# Altium footprint library FootPrintLib_6.PcbLib: 588 footprints (part 11 of 37)
Each footprint in its own frame and in the unit in brackets; x right, y up, seen from the top. Pads: shape width x height; smd on the part's side, far side on the other; paste and mask are expansions set on the pad; w line width, h text height; cw(c..) or ccw(c..) is an arc to the next point about the centre after c.
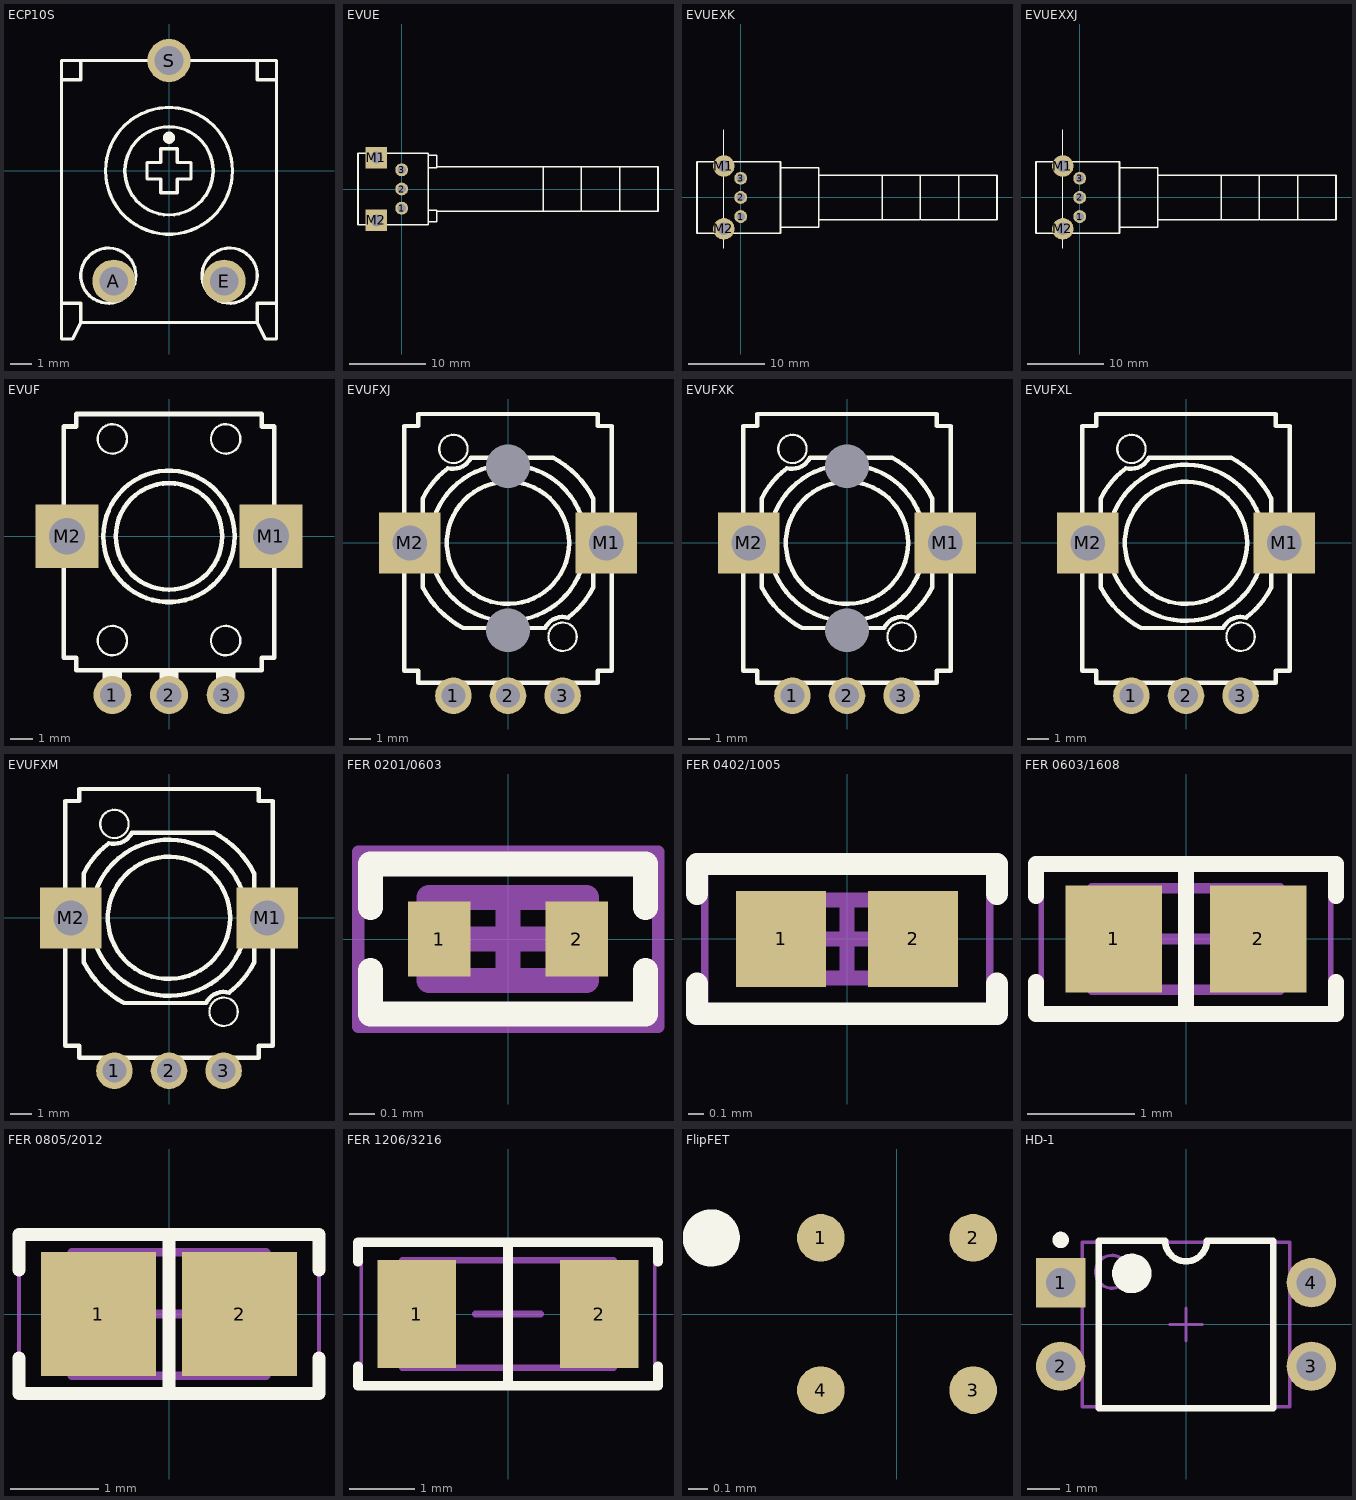
[diagram p10: the footprints below, top view; thin cyan lines are the x and y axes]

## ECP10S [mil]
pads (3):
  round 78 hole 52: A(-100,-200) E(100,-200) S(0,200)
Top Overlay:
  circle w6: c0,0 r115
  circle w12: c0,60 r5
  circle w6: c110,-190 r50
  circle w6: c-110,-190 r50
  circle w6: c0,0 r80
  rectangle: -20,200 20,215
  lines w6: -195,-240 -195,-305 -175,-305 -160,-275 ; -195,-240 -160,-240 -160,-275 ; -195,-240 -195,165 ; -195,165 -160,165 -160,200 ; -195,165 -195,200 -160,200 ; -160,-275 160,-275 ; -160,200 -60,200 60,200 160,200 ; 160,-275 175,-305 195,-305 195,-240 ; 160,-275 160,-240 195,-240 ; 160,200 160,165 195,165 ; 160,200 195,200 195,165 ; 195,-240 195,165 ; -40,-15 -40,15 -15,15 -15,40 15,40 15,15 40,15 40,-15 15,-15 15,-40 -15,-40 -15,-15 -40,-15

## EVUE [mm]
pads (5):
  round 1.676 hole 1.1: 1(0,-2.5) 2(0,0) 3(0,2.5)
  rect 2.8x2.8 hole 1.6: M1(-3.3,4.1) M2(-3.3,-4.1)
Top Overlay:
  lines w0.203: -0.62,-4.65 3.45,-4.65 ; -0.62,4.65 3.45,4.65 ; 3.55,-4.3 4.55,-4.3 4.55,-2.8 3.55,-2.8 ; 3.55,2.8 4.55,2.8 4.55,4.4 3.55,4.4 ; 4.65,-2.9 18.45,-2.9 18.45,2.9 ; 4.65,2.9 18.45,2.9 ; 18.55,-2.9 23.45,-2.9 23.45,2.9 ; 23.55,-2.9 28.45,-2.9 28.45,2.9 ; 28.55,-2.9 33.45,-2.9 33.45,2.9 28.45,2.9 ; 3.45,-4.65 -5.7,-4.65 -5.7,4.65 3.45,4.65 ; 3.45,-4.65 3.45,4.65 ; 18.45,2.9 23.45,2.9 ; 23.45,2.9 28.45,2.9
Mechanical 1:
  lines w0.008: -4.35,-4.9 -4.35,-3.3 -2.25,-3.3 -2.25,-4.9 -4.35,-4.9 ; -4.35,3.3 -4.35,4.9 -2.25,4.9 -2.25,3.3 -4.35,3.3

## EVUEXK [mm]
pads (5):
  round 1.676 hole 1.1: 1(0,-2.5) 2(0,0) 3(0,2.5)
  round 2.8 hole 1.6: M1(-2.2,4.1) M2(-2.2,-4.1)
Top Overlay:
  lines w0.008: -2.2,-6.6 -2.2,8.8
  lines w0.203: -0.12,-4.65 5.2,-4.65 ; -0.12,4.65 5.2,4.65 ; 5.3,-3.9 10.2,-3.9 10.2,3.9 5.3,3.9 ; 10.3,-2.9 18.45,-2.9 18.45,2.9 ; 10.3,2.9 18.45,2.9 ; 18.55,-2.9 23.45,-2.9 23.45,2.9 ; 23.55,-2.9 28.45,-2.9 28.45,2.9 ; 28.55,-2.9 33.45,-2.9 33.45,2.9 28.45,2.9 ; 5.2,-4.65 -5.7,-4.65 -5.7,4.65 5.2,4.65 ; 5.2,-4.65 5.2,4.65 ; 18.45,2.9 23.45,2.9 ; 23.45,2.9 28.45,2.9
Mechanical 1:
  lines w0.008: -3.25,-4.9 -3.25,-3.3 -1.15,-3.3 -1.15,-4.9 -3.25,-4.9 ; -3.25,3.3 -3.25,4.9 -1.15,4.9 -1.15,3.3 -3.25,3.3

## EVUEXXJ [mm]
pads (5):
  round 1.676 hole 1.1: 1(0,-2.5) 2(0,0) 3(0,2.5)
  round 2.8 hole 1.6: M1(-2.2,4.1) M2(-2.2,-4.1)
Top Overlay:
  lines w0.008: -2.2,-6.6 -2.2,8.8
  lines w0.203: -0.12,-4.65 5.2,-4.65 ; -0.12,4.65 5.2,4.65 ; 5.3,-3.9 10.2,-3.9 10.2,3.9 5.3,3.9 ; 10.3,-2.9 18.45,-2.9 18.45,2.9 ; 10.3,2.9 18.45,2.9 ; 18.55,-2.9 23.45,-2.9 23.45,2.9 ; 23.55,-2.9 28.45,-2.9 28.45,2.9 ; 28.55,-2.9 33.45,-2.9 33.45,2.9 28.45,2.9 ; 5.2,-4.65 -5.7,-4.65 -5.7,4.65 5.2,4.65 ; 5.2,-4.65 5.2,4.65 ; 18.45,2.9 23.45,2.9 ; 23.45,2.9 28.45,2.9
Mechanical 1:
  lines w0.008: -3.25,-4.9 -3.25,-3.3 -1.15,-3.3 -1.15,-4.9 -3.25,-4.9 ; -3.25,3.3 -3.25,4.9 -1.15,4.9 -1.15,3.3 -3.25,3.3

## EVUF [mm]
pads (5):
  round 1.676 hole 1.1: 1(-2.5,-7) 2(0,-7) 3(2.5,-7)
  rect 2.8x2.8 hole 1.6: M1(4.5,0) M2(-4.5,0)
Top Overlay:
  circle w0.203: c0,0 r2.35
  circle w0.203: c0,0 r2.9
  circle w0.102: c2.5,4.3 r0.65
  circle w0.102: c-2.5,4.3 r0.65
  circle w0.102: c2.5,-4.6 r0.65
  circle w0.102: c-2.5,-4.6 r0.65
  rectangle: 2.075,-7.325 2.925,-6
  rectangle: -0.425,-7.325 0.425,-6
  rectangle: -2.925,-7.325 -2.075,-6
  lines w0.203: -4.75,-0.9 -5.5,-0.9 -5.5,0.9 -4.75,0.9 ; -4.65,-2.15 -4.65,-5.35 ; -4.65,2.65 -4.65,4.85 ; 4.65,-2.15 4.65,-5.35 ; 4.65,2.65 4.65,4.85 ; 4.75,-0.9 5.5,-0.9 5.5,0.9 4.75,0.9 ; -4.65,-5.35 -4.1,-5.35 -4.1,-5.9 4.1,-5.9 4.1,-5.35 4.65,-5.35 ; -4.65,-5.35 -4.65,4.85 ; -4.65,4.85 -4.1,4.85 -4.1,5.4 4.1,5.4 4.1,4.85 4.65,4.85 ; 4.65,-5.35 4.65,4.85
Mechanical 1:
  lines w0.008: -5.3,-1.05 -3.7,-1.05 -3.7,1.05 -5.3,1.05 -5.3,-1.05 ; 3.7,-1.05 5.3,-1.05 5.3,1.05 3.7,1.05 3.7,-1.05
3D body "SW3dPS-Potentiometer 250U.STEP": height 15.26, standoff -3.8, extent -4.876,-7.21 4.876,5.34

## EVUFXJ [mm]
pads (7):
  round 1.676 hole 1.1: 1(-2.5,-7) 2(0,-7) 3(2.5,-7)
  rect 2.8x2.8 hole 1.6: M1(4.5,0) M2(-4.5,0)
  round 0 hole 2 unplated: MH(0,-4) MH(0,3.5)
Top Overlay:
  circle w0.102: c2.5,-4.3 r0.65
  circle w0.203: c0,0 r2.8
  circle w0.203: c0,0 r3.575
  circle w0.102: c-2.5,4.3 r0.65
  rectangle: 2.075,-7.325 2.925,-6.5
  rectangle: -0.425,-7.325 0.425,-6.5
  rectangle: -2.925,-7.325 -2.075,-6.5
  lines w0.203: -4.85,-0.9 -5.5,-0.9 -5.5,0.9 -4.85,0.9 ; -4.75,-2.15 -4.75,-5.85 ; -4.75,2.65 -4.75,5.35 ; 4.75,-2.15 4.75,-5.85 ; 4.75,2.65 4.75,5.35 ; 4.85,-0.9 5.5,-0.9 5.5,0.9 4.85,0.9 ; -4.75,-5.85 -4.1,-5.85 -4.1,-6.4 4.1,-6.4 4.1,-5.85 4.75,-5.85 ; -4.75,-5.85 -4.75,5.35 ; -4.75,5.35 -4.1,5.35 -4.1,5.9 4.1,5.9 4.1,5.35 4.75,5.35 ; 4.75,-5.85 4.75,5.35 ; -3.9,-2.05 ccw(c0,0) -2.05,-3.9 1.7,-3.9 cw(c2.508,-4.288) 2.75,-3.425 ccw(c0.311,-0.217) 3.9,-2.05 3.9,2.05 ccw(c0,0) 2.05,3.9 -1.7,3.9 cw(c-2.508,4.288) -2.75,3.425 ccw(c-0.311,0.217) -3.9,2.05 -3.9,-2.05
Mechanical 1:
  lines w0.008: -5.3,-1.05 -3.7,-1.05 -3.7,1.05 -5.3,1.05 -5.3,-1.05 ; 3.7,-1.05 5.3,-1.05 5.3,1.05 3.7,1.05 3.7,-1.05

## EVUFXK [mm]
pads (7):
  round 1.676 hole 1.1: 1(-2.5,-7) 2(0,-7) 3(2.5,-7)
  rect 2.8x2.8 hole 1.6: M1(4.5,0) M2(-4.5,0)
  round 0 hole 2 unplated: MH(0,-4) MH(0,3.5)
Top Overlay:
  circle w0.102: c-2.5,4.3 r0.65
  circle w0.203: c0,0 r3.575
  circle w0.203: c0,0 r2.8
  circle w0.102: c2.5,-4.3 r0.65
  rectangle: -2.925,-7.325 -2.075,-6.5
  rectangle: -0.425,-7.325 0.425,-6.5
  rectangle: 2.075,-7.325 2.925,-6.5
  lines w0.203: -4.85,-0.9 -5.5,-0.9 -5.5,0.9 -4.85,0.9 ; -4.75,-2.15 -4.75,-5.85 ; -4.75,2.65 -4.75,5.35 ; 4.75,-2.15 4.75,-5.85 ; 4.75,2.65 4.75,5.35 ; 4.85,-0.9 5.5,-0.9 5.5,0.9 4.85,0.9 ; -4.75,-5.85 -4.75,5.35 ; -4.75,-5.85 -4.1,-5.85 -4.1,-6.4 4.1,-6.4 4.1,-5.85 4.75,-5.85 ; -4.75,5.35 -4.1,5.35 -4.1,5.9 4.1,5.9 4.1,5.35 4.75,5.35 ; 4.75,-5.85 4.75,5.35 ; -3.9,-2.05 ccw(c0,0) -2.05,-3.9 1.7,-3.9 cw(c2.508,-4.288) 2.75,-3.425 ccw(c0.311,-0.217) 3.9,-2.05 3.9,2.05 ccw(c0,0) 2.05,3.9 -1.7,3.9 cw(c-2.508,4.288) -2.75,3.425 ccw(c-0.311,0.217) -3.9,2.05 -3.9,-2.05
Mechanical 1:
  lines w0.008: -5.3,-1.05 -5.3,1.05 -3.7,1.05 -3.7,-1.05 -5.3,-1.05 ; 3.7,-1.05 3.7,1.05 5.3,1.05 5.3,-1.05 3.7,-1.05

## EVUFXL [mm]
pads (5):
  round 1.676 hole 1.1: 1(-2.5,-7) 2(0,-7) 3(2.5,-7)
  rect 2.8x2.8 hole 1.6: M1(4.5,0) M2(-4.5,0)
Top Overlay:
  circle w0.102: c-2.5,4.3 r0.65
  circle w0.203: c0,0 r3.575
  circle w0.203: c0,0 r2.8
  circle w0.102: c2.5,-4.3 r0.65
  rectangle: -2.925,-7.325 -2.075,-6.5
  rectangle: -0.425,-7.325 0.425,-6.5
  rectangle: 2.075,-7.325 2.925,-6.5
  lines w0.203: -4.85,-0.9 -5.5,-0.9 -5.5,0.9 -4.85,0.9 ; -4.75,-2.15 -4.75,-5.85 ; -4.75,2.65 -4.75,5.35 ; 4.75,-2.15 4.75,-5.85 ; 4.75,2.65 4.75,5.35 ; 4.85,-0.9 5.5,-0.9 5.5,0.9 4.85,0.9 ; -4.75,-5.85 -4.75,5.35 ; -4.75,-5.85 -4.1,-5.85 -4.1,-6.4 4.1,-6.4 4.1,-5.85 4.75,-5.85 ; -4.75,5.35 -4.1,5.35 -4.1,5.9 4.1,5.9 4.1,5.35 4.75,5.35 ; 4.75,-5.85 4.75,5.35 ; -3.9,-2.05 ccw(c0,0) -2.05,-3.9 1.7,-3.9 cw(c2.508,-4.288) 2.75,-3.425 ccw(c0.311,-0.217) 3.9,-2.05 3.9,2.05 ccw(c0,0) 2.05,3.9 -1.7,3.9 cw(c-2.508,4.288) -2.75,3.425 ccw(c-0.311,0.217) -3.9,2.05 -3.9,-2.05
Mechanical 1:
  lines w0.008: -5.3,-1.05 -5.3,1.05 -3.7,1.05 -3.7,-1.05 -5.3,-1.05 ; 3.7,-1.05 3.7,1.05 5.3,1.05 5.3,-1.05 3.7,-1.05

## EVUFXM [mm]
pads (5):
  round 1.676 hole 1.1: 1(-2.5,-7) 2(0,-7) 3(2.5,-7)
  rect 2.8x2.8 hole 1.6: M1(4.5,0) M2(-4.5,0)
Top Overlay:
  circle w0.102: c-2.5,4.3 r0.65
  circle w0.203: c0,0 r3.575
  circle w0.203: c0,0 r2.8
  circle w0.102: c2.5,-4.3 r0.65
  rectangle: -2.925,-7.325 -2.075,-6.5
  rectangle: -0.425,-7.325 0.425,-6.5
  rectangle: 2.075,-7.325 2.925,-6.5
  lines w0.203: -4.85,-0.9 -5.5,-0.9 -5.5,0.9 -4.85,0.9 ; -4.75,-2.15 -4.75,-5.85 ; -4.75,2.65 -4.75,5.35 ; 4.75,-2.15 4.75,-5.85 ; 4.75,2.65 4.75,5.35 ; 4.85,-0.9 5.5,-0.9 5.5,0.9 4.85,0.9 ; -4.75,-5.85 -4.75,5.35 ; -4.75,-5.85 -4.1,-5.85 -4.1,-6.4 4.1,-6.4 4.1,-5.85 4.75,-5.85 ; -4.75,5.35 -4.1,5.35 -4.1,5.9 4.1,5.9 4.1,5.35 4.75,5.35 ; 4.75,-5.85 4.75,5.35 ; -3.9,-2.05 ccw(c0,0) -2.05,-3.9 1.7,-3.9 cw(c2.508,-4.288) 2.75,-3.425 ccw(c0.311,-0.217) 3.9,-2.05 3.9,2.05 ccw(c0,0) 2.05,3.9 -1.7,3.9 cw(c-2.508,4.288) -2.75,3.425 ccw(c-0.311,0.217) -3.9,2.05 -3.9,-2.05
Mechanical 1:
  lines w0.008: -5.3,-1.05 -5.3,1.05 -3.7,1.05 -3.7,-1.05 -5.3,-1.05 ; 3.7,-1.05 3.7,1.05 5.3,1.05 5.3,-1.05 3.7,-1.05

## FER 0201/0603 [mm] "Chip Inductor, 2-Leads, Body 0.60x0.30mm, IPC Medium Density"
height 0.33
pads (2):
  rect 0.25x0.3 smd: 1(-0.275,0) 2(0.275,0)
Top Overlay:
  lines w0.1: -0.55,-0.125 -0.55,-0.3 0.55,-0.3 0.55,-0.125 ; -0.55,0.125 -0.55,0.3 0.55,0.3 0.55,0.125
Mechanical 13:
  lines w0.1: -0.315,-0.165 0.315,-0.165 0.315,0.165 -0.315,0.165 -0.315,-0.165
Mechanical 15:
  lines w0.05: -0.6,-0.35 0.6,-0.35 0.6,0.35 -0.6,0.35 -0.6,-0.35
  lines w0.1: -0.165,0 0.165,0 ; 0,-0.165 0,0.165
3D body "FER 0201.STEP": height 0.29, standoff -0.01, extent -0.3,-0.15 0.3,0.15

## FER 0402/1005 [mm] "Chip Ferrite, 2-Leads, Body 1.02x0.51mm, IPC Medium Density"
height 0.52
pads (2):
  rect 0.6x0.64 smd: 1(-0.44,0) 2(0.44,0)
Top Overlay:
  lines w0.15: -1,-0.3 -1,-0.5 1,-0.5 1,-0.3 ; -1,0.3 -1,0.5 1,0.5 1,0.3
Mechanical 13:
  lines w0.1: -0.515,-0.26 -0.515,0.26 0.515,0.26 0.515,-0.26 -0.515,-0.26
Mechanical 15:
  lines w0.05: -0.95,-0.5 -0.95,0.5 0.95,0.5 0.95,-0.5 -0.95,-0.5
  lines w0.1: -0.26,0 0.26,0 ; 0,-0.26 0,0.26
3D body "FER 0402.STEP": height 0.52, standoff 0, extent -0.5,-0.262 0.5,0.262

## FER 0603/1608 [mm] "Chip Ferrite, 2-Leads, Body 1.60x0.80mm, IPC Medium Density"
height 0.89
pads (2):
  rect 0.9x1 smd: 1(-0.675,0) 2(0.675,0)
Top Overlay:
  lines w0.15: -1.4,-0.4 -1.4,-0.7 1.4,-0.7 1.4,-0.4 ; -1.4,0.4 -1.4,0.7 1.4,0.7 1.4,0.4 ; 0,-0.7 0,0.7
Mechanical 13:
  lines w0.1: -0.875,-0.475 0.875,-0.475 0.875,0.475 -0.875,0.475 -0.875,-0.475
Mechanical 15:
  lines w0.05: -1.35,-0.75 1.35,-0.75 1.35,0.75 -1.35,0.75 -1.35,-0.75
  lines w0.1: -0.475,0 0.475,0 ; 0,-0.475 0,0.475
3D body "FER 0603.STEP": height 0.82, standoff 0, extent -0.8,-0.412 0.8,0.412

## FER 0805/2012 [mm] "Chip Ferrite, 2-Leads, Body 2.00x1.20mm, IPC Medium Density"
height 1.15
pads (2):
  rect 1.3x1.4 smd: 1(-0.8,0) 2(0.8,0)
Top Overlay:
  lines w0.15: -1.7,-0.5 -1.7,-0.9 1.7,-0.9 1.7,-0.5 ; -1.7,0.5 -1.7,0.9 1.7,0.9 1.7,0.5 ; 0,-0.9 0,0.9
Mechanical 13:
  lines w0.1: -1.1,-0.7 -1.1,0.7 1.1,0.7 1.1,-0.7 -1.1,-0.7
Mechanical 15:
  lines w0.05: -1.7,-0.95 -1.7,0.95 1.7,0.95 1.7,-0.95 -1.7,-0.95
  lines w0.1: -0.5,0 0.5,0 ; 0,-0.5 0,0.5
3D body "FER 0805.STEP": height 1.26, standoff -0.02, extent -1,-0.637 1,0.637

## FER 1206/3216 [mm] "Chip Ferrite, 2-Leads"
height 0.7
pads (2):
  rect 1.2x1.65 smd: 1(-1.4,0) 2(1.4,0)
Top Overlay:
  lines w0.15: -2.3,-0.8 -2.3,-1.1 2.3,-1.1 2.3,-0.8 ; -2.3,0.8 -2.3,1.1 2.3,1.1 2.3,0.8 ; 0,-1.1 0,1.1
Mechanical 13:
  lines w0.1: -1.625,-0.825 1.625,-0.825 1.625,0.825 -1.625,0.825 -1.625,-0.825
Mechanical 15:
  lines w0.05: -2.25,-1.1 2.25,-1.1 2.25,1.1 -2.25,1.1 -2.25,-1.1
  lines w0.1: -0.5,0 0.5,0 ; 0,-0.5 0,0.5
3D body "User Library-ind_1206.STEP": height 1.1, standoff 0, extent -1.6,-0.8 1.6,0.8

## FlipFET [mm] "FlipFET; 4 Balls; Body 1.5 x1.5 x 0.8 (LxWxH)"
height 0.762
pads (4):
  round 0.25 smd: 1(-0.4,0.4) 2(0.4,0.4) 3(0.4,-0.4) 4(-0.4,-0.4)
Top Overlay:
  circle w0.15: c-0.975,0.4 r0.075

## HD-1 [mm] "DIP, 4-Leads, Row Spacing 7.62mm, Pitch 2.54mm, Body 4.9x6.17mm"
height 4.57
pads (4):
  rect 1.5x1.5 hole 0.9: 1(-3.81,1.27)
  round 1.5 hole 0.9: 2(-3.81,-1.27) 3(3.81,-1.27) 4(3.81,1.27)
Top Overlay:
  circle w0.6: c-1.65,1.55 r0.3
  circle w0.25: c-3.81,2.57 r0.125
  lines w0.2: -2.65,-2.55 2.65,-2.55 2.65,2.55 0.635,2.55 cw(c0,2.55) -0.635,2.55 -2.65,2.55 -2.65,-2.55
Mechanical 13:
  circle w0.1: c-2.25,1.6 r0.5
  lines w0.1: -3.15,-2.5 3.15,-2.5 3.15,2.5 -3.15,2.5 -3.15,-2.5
Mechanical 15:
  lines w0.1: -0.5,0 0.5,0 ; 0,-0.5 0,0.5
3D body: height 4.57, standoff 0, extent -3.15,-2.5 3.15,2.5